# Altium footprint library PWR578A.PcbLib: 62 footprints (part 1 of 4)
Each footprint in its own frame and in the unit in brackets; x right, y up, seen from the top. Pads: shape width x height; smd on the part's side, far side on the other; paste and mask are expansions set on the pad; w line width, h text height; cw(c..) or ccw(c..) is an arc to the next point about the centre after c.
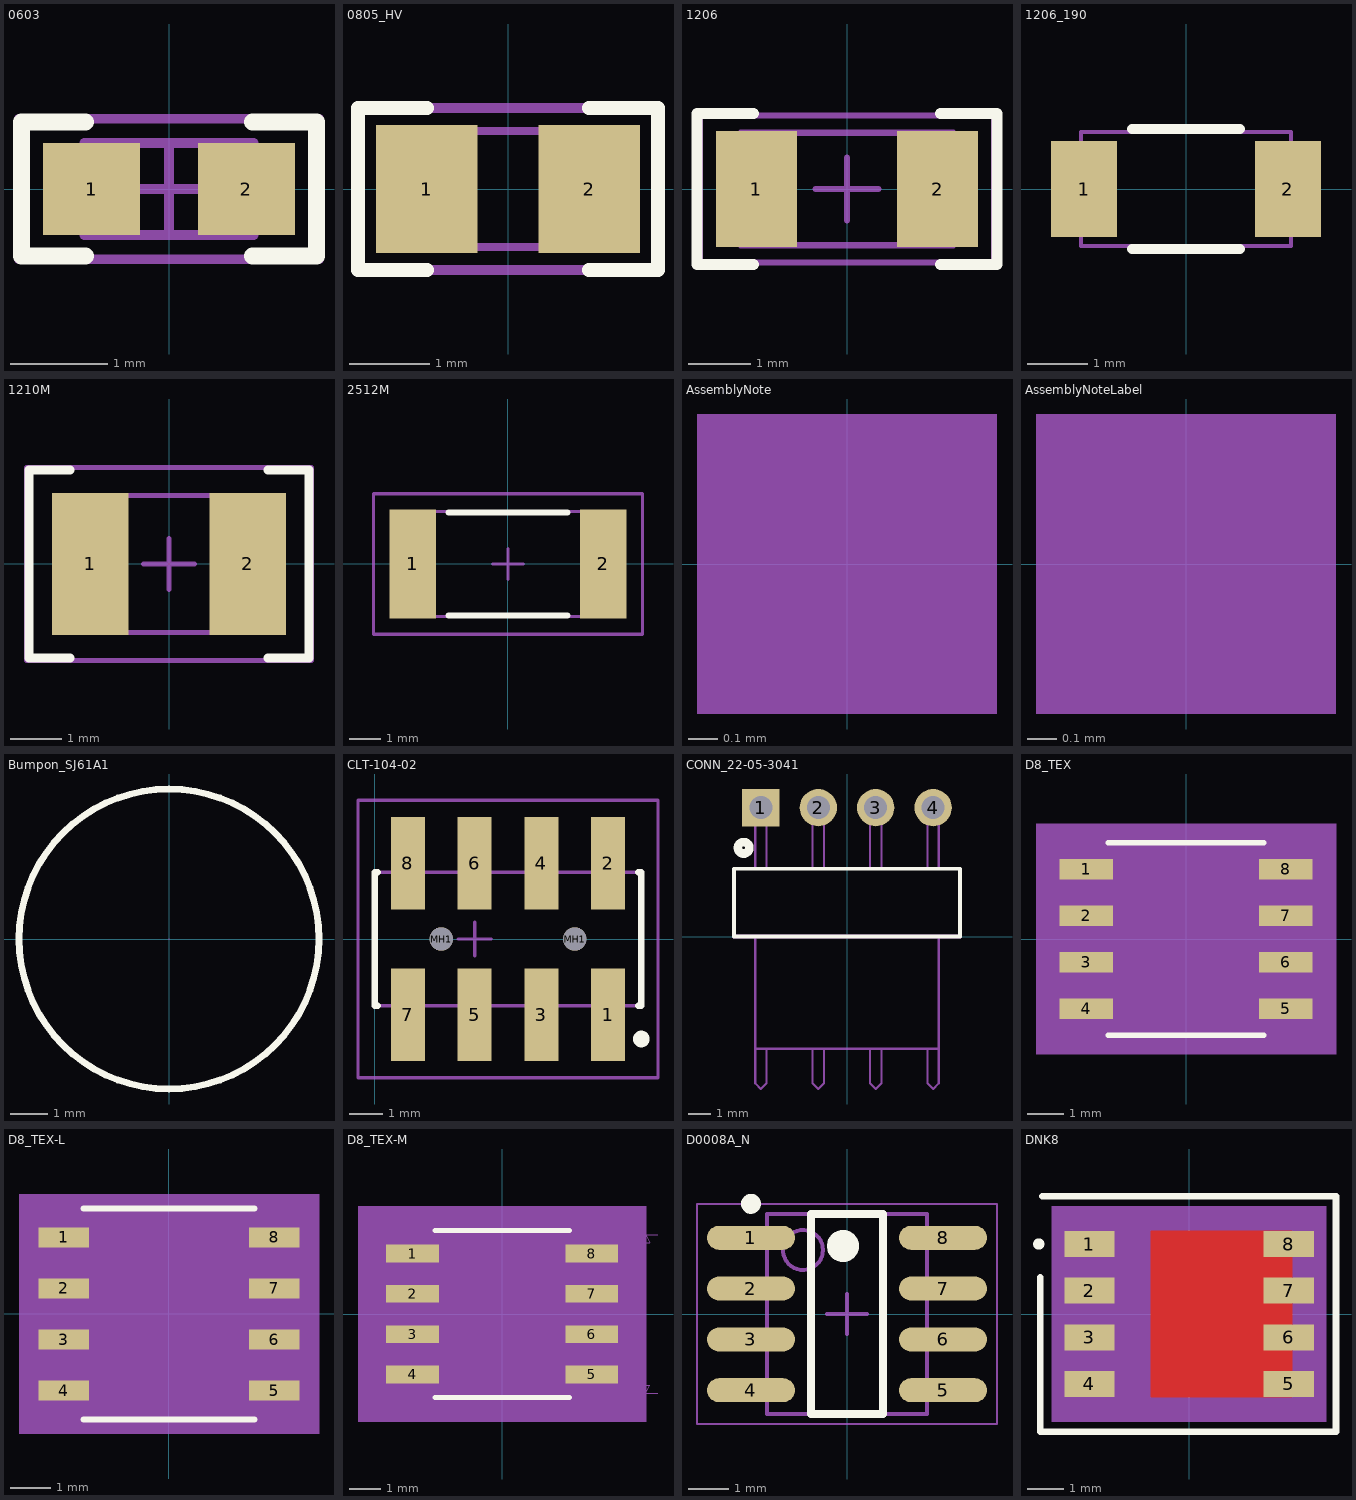
[diagram p0: the footprints below, top view; thin cyan lines are the x and y axes]

## 0603 [mm]
pads (2):
  rect 1x0.95 smd: 1(-0.8,0) 2(0.8,0)
Top Overlay:
  lines w0.178: -0.864,-0.691 -1.524,-0.691 -1.524,0.693 -0.864,0.693 ; 0.864,-0.691 1.524,-0.691 1.524,0.693 0.864,0.693
Mechanical 5:
  lines w0.1: -1.55,-0.725 -1.55,0.725 1.55,0.725 1.55,-0.725 -1.55,-0.725
  text ".Designator" at -1.397,-0.381 h0.76
Mechanical 13:
  lines w0.1: -0.55,-0.475 -0.55,0.475 ; 0.55,-0.475 0.55,0.475 ; -0.875,-0.475 -0.875,0.475 0.875,0.475 0.875,-0.475 -0.875,-0.475
Mechanical 15:
  lines w0.1: -0.475,0 0.475,0 ; 0,-0.475 0,0.475 ; -1.55,-0.725 -1.55,0.725 1.55,0.725 1.55,-0.725 -1.55,-0.725
3D body: height 0.85, standoff 0, extent -0.874,-0.474 -0.551,0.474
3D body: height 0.85, standoff 0, extent 0.551,-0.474 0.874,0.474
3D body: height 0.85, standoff 0, extent -0.549,-0.474 0.549,0.474

## 0805_HV [mil]
pads (2):
  rect 50x63 smd: 1(-40,0) 2(40,0)
Top Overlay:
  lines w7: -40,-40 -74,-40 -74,0 -74,40 -40,40 ; 40,-40 74,-40 74,0 74,40 40,40
Mechanical 5:
  lines w5: -74,-40 -74,40 74,40 74,-40 -74,-40
  text ".Designator" at -64,-17 h35
Mechanical 13:
  lines w3.94: -25.59,-28.54 -25.59,28.54 ; 25.59,-28.54 25.59,28.54 ; -43.31,-28.54 -43.31,28.54 43.31,28.54 43.31,-28.54 -43.31,-28.54
3D body: height 43.31, standoff 0, extent -43.29,-28.52 -25.61,28.52
3D body: height 43.31, standoff 0, extent -25.57,-28.52 25.57,28.52
3D body: height 43.31, standoff 0, extent 25.61,-28.52 43.29,28.52

## 1206 [mm]
pads (2):
  rect 1.3x1.85 smd: 1(-1.45,0) 2(1.45,0)
Top Overlay:
  lines w0.178: -1.5,-1.21 -2.4,-1.21 -2.4,1.21 -1.5,1.21 ; 1.5,-1.21 2.4,-1.21 2.4,1.21 1.5,1.21
Mechanical 5:
  lines w0.1: -1.7,-0.9 -1.7,0.9 1.7,0.9 1.7,-0.9 -1.7,-0.9
  text ".Designator" at -1.475,-0.4 h0.81
Mechanical 13:
  lines w0.1: -1.2,-0.9 -1.2,0.9 ; 1.2,-0.9 1.2,0.9 ; -1.7,-0.9 -1.7,0.9 1.7,0.9 1.7,-0.9 -1.7,-0.9
Mechanical 15:
  lines w0.1: -0.5,0 0.5,0 ; 0,-0.5 0,0.5 ; -2.35,-1.175 -2.35,1.175 2.35,1.175 2.35,-1.175 -2.35,-1.175
3D body: height 1.35, standoff 0, extent -1.699,-0.899 -1.201,0.899
3D body: height 1.35, standoff 0, extent -1.199,-0.899 1.199,0.899
3D body: height 1.35, standoff 0, extent 1.201,-0.899 1.699,0.899

## 1206_190 [mm]
pads (2):
  rect 1.1x1.6 smd: 1(-1.7,0) 2(1.7,0)
Top Overlay:
  lines w0.17: -0.9,-1 0.9,-1 ; -0.9,1 0.9,1
Mechanical 5:
  lines w0.07: -1.75,-0.95 -1.75,0.95 1.75,0.95 1.75,-0.95 -1.75,-0.95
  text ".Designator" at -1.5,-0.4 h0.81
3D body: height 1.9, standoff 0, extent -1.299,-0.949 1.299,0.949
3D body: height 1.9, standoff 0, extent -1.749,-0.949 -1.301,0.949
3D body: height 1.9, standoff 0, extent 1.301,-0.949 1.749,0.949

## 1210M [mm]
pads (2):
  rect 1.5x2.8 smd: 1(-1.55,0) 2(1.55,0)
Top Overlay:
  lines w0.178: -1.95,-1.85 -2.75,-1.85 -2.75,1.85 -1.95,1.85 ; 1.95,-1.85 2.75,-1.85 2.75,1.85 1.95,1.85
Mechanical 5:
  lines w0.1: -1.7,-1.35 1.7,-1.35 1.7,1.35 -1.7,1.35 -1.7,-1.35
  text ".Designator" at -1.4,-0.375 h0.76
Mechanical 13:
  lines w0.1: -1.2,-1.35 -1.2,1.35 ; 1.2,-1.35 1.2,1.35 ; -1.7,-1.35 -1.7,1.35 1.7,1.35 1.7,-1.35 -1.7,-1.35
Mechanical 15:
  lines w0.1: -0.5,0 0.5,0 ; 0,-0.5 0,0.5 ; -2.8,-1.9 2.8,-1.9 2.8,1.9 -2.8,1.9 -2.8,-1.9
3D body: height 1.35, standoff 0, extent 1.201,-1.349 1.699,1.349
3D body: height 1.35, standoff 0, extent -1.199,-1.349 1.199,1.349
3D body: height 1.35, standoff 0, extent -1.699,-1.349 -1.201,1.349

## 2512M [mm]
pads (2):
  rect 1.5x3.5 smd: 1(-3.05,0) 2(3.05,0)
Top Overlay:
  lines w0.2: -1.9,-1.65 1.9,-1.65 ; -1.9,1.65 1.9,1.65
Mechanical 5:
  lines w0.1: -3.225,-1.675 -3.225,1.675 3.225,1.675 3.225,-1.675 -3.225,-1.675
  text ".Designator" at -1.85,-0.5 h1.02
Mechanical 13:
  lines w0.1: -2.463,-1.675 -2.463,1.675 ; 2.463,-1.675 2.463,1.675 ; -3.225,-1.675 -3.225,1.675 3.225,1.675 3.225,-1.675 -3.225,-1.675
Mechanical 15:
  lines w0.1: -0.5,0 0.5,0 ; 0,-0.5 0,0.5 ; -4.3,-2.25 -4.3,2.25 4.3,2.25 4.3,-2.25 -4.3,-2.25
3D body: height 0.71, standoff 0, extent 2.464,-1.674 3.224,1.674
3D body: height 0.71, standoff 0, extent -2.462,-1.674 2.462,1.674
3D body: height 0.71, standoff 0, extent -3.224,-1.674 -2.464,1.674

## AssemblyNote [mm]
Mechanical 5:
  rectangle: -0.508,-0.508 0.508,0.508
  text ".Comment" at 1.143,-0.508 h1.02
  text ".Designator" at -12.7,-0.254 h1.02

## AssemblyNoteLabel [mm]
Mechanical 5:
  rectangle: -0.508,-0.508 0.508,0.508
  text ".Designator" at -12.7,-0.254 h1.02
  text "Install label in silkscreened box after final wash.  Text shall be 8 pt font.  Text shall be per the Label Table in the PDF schematic." at 1.143,-0.508 h1.02

## Bumpon_SJ61A1 [mil]
pads (1):
  round 1 on Mech3: 0(0,0)
Top Overlay:
  circle w7: c0,0 r156.21
Mechanical 5:
  circle w5: c0,0 r156.21
  text ".Designator" at -60,-20 h40
3D body "SJxxA1.stp": height 200.6, standoff 0.6, extent -155.95,-156 155.96,156

## CLT-104-02 [mm] "Connector, Socket Strip, Double Row, SMT, 8 Position, Vertical, Pitch 2mm, Body 20 x 4 mm (LxW)"
height 2.12
pads (10):
  rect 1.02x2.77 smd: 1(7,-2.275) 2(7,2.275) 3(5,-2.275) 4(5,2.275) 5(3,-2.275) 6(3,2.275) 7(1,-2.275) 8(1,2.275)
  round 0.7 hole 0.7 unplated: MH1(2,0) MH1(5.999,0)
Top Overlay:
  circle w0.25: c8,-3 r0.125
  lines w0.2: 0.09,-2 0,-2 0,2 0.09,2 ; 7.91,-2 8,-2 8,2 7.91,2
Mechanical 13:
  lines w0.1: 0,-2 8,-2 8,2 0,2 0,-2
Mechanical 15:
  lines w0.1: 2.5,0 3.5,0 ; 3,-0.5 3,0.5 ; -0.5,-4.16 8.5,-4.16 8.5,4.16 -0.5,4.16 -0.5,-4.16
3D body "CLT-104-02-F-D-A.stp": height 2.27, standoff -0.61, extent -0.002,-2.578 7.998,2.578

## CONN_22-05-3041 [mm]
pads (4):
  rect 1.65x1.65 hole 1.02: 1(-3.81,5.7)
  round 1.65 hole 1.02: 2(-1.27,5.7) 3(1.27,5.7) 4(3.81,5.7)
Top Overlay:
  circle w0.381: c-4.572,3.922 r0.254
  lines w0.17: -5,0 -5,3 5,3 5,0 -5,0
Mechanical 1:
  lines w0.17: -5,0 5,0
Mechanical 5:
  lines w0.1: -4.064,-4.968 -3.556,-4.968 ; -4.064,0 -4.064,-6.492 -3.81,-6.746 -3.556,-6.492 -3.556,-4.968 ; -4.064,3 -4.064,5.7 -4.064,5.954 -3.556,5.954 -3.556,5.7 -3.556,3 ; -1.524,3 -1.524,5.7 -1.524,5.954 -1.016,5.954 -1.016,5.7 -1.016,3 ; 1.016,3 1.016,5.7 1.016,5.954 1.524,5.954 1.524,5.7 1.524,3 ; 1.524,-4.968 1.524,-6.492 1.27,-6.746 1.016,-6.492 1.016,-4.968 ; 3.556,-4.968 3.556,-6.492 3.81,-6.746 4.064,-6.492 4.064,0 ; 3.556,3 3.556,5.7 3.556,5.954 4.064,5.954 4.064,5.6 4.064,3 ; 3.6,3 3.8,3 ; 4.064,-4.968 1.016,-4.968 ; -3.556,-4.968 -1.524,-4.968 ; -1.524,-4.968 -1.016,-4.968 ; -1.524,-4.968 -1.524,-6.492 -1.27,-6.746 -1.016,-6.492 -1.016,-4.968 ; -1.016,-4.968 1.016,-4.968 ; -5,0 -5,3 5,3 5,0 -5,0
  text ".Designator" at -2.032,1.128 h1.02
3D body "Molex_22-05-3041.stp": height 6.37, standoff -3.57, extent -5.004,-6.911 5.004,6.018

## D8_TEX [mil]
pads (8):
  rect 57.5x22 smd paste+0 mask+0: 1(-107.25,75) 2(-107.25,25) 3(-107.25,-25) 4(-107.25,-75) 5(107.25,-75) 6(107.25,-25) 7(107.25,25) 8(107.25,75)
Top Overlay:
  lines w6: -83.5,-103.5 83.5,-103.5 ; -83.5,103.5 83.5,103.5
  text "." at -173.23,70.87 h50
Mechanical 5:
  region: 161,-123.5 -161,-123.5 -161,123.5 161,123.5
Mechanical 13:
  lines w0: -12,98.5 ccw(c0,98.5) 12,98.5
  lines w1: -122,-85 -78.5,-85 -78.5,-65 -122,-65 -122,-85 ; -122,-35 -78.5,-35 -78.5,-15 -122,-15 -122,-35 ; -122,15 -78.5,15 -78.5,35 -122,35 -122,15 ; -122,65 -78.5,65 -78.5,85 -122,85 -122,65 ; -78.5,-98.5 -78.5,98.5 78.5,98.5 78.5,-98.5 -78.5,-98.5 ; 78.5,-85 122,-85 122,-65 78.5,-65 78.5,-85 ; 78.5,-35 122,-35 122,-15 78.5,-15 78.5,-35 ; 78.5,15 122,15 122,35 78.5,35 78.5,15 ; 78.5,65 122,65 122,85 78.5,85 78.5,65
  text "*" at -76,45.5 h50
Mechanical 15:
  region: -88.5,-96 -146,-96 -146,96 -88.5,96 -88.5,108.5 88.5,108.5 88.5,96 146,96 146,-96 88.5,-96 88.5,-108.5 -88.5,-108.5
  lines w6: -146,-96 -88.5,-96 -88.5,-108.5 88.5,-108.5 88.5,-96 146,-96 146,96 88.5,96 88.5,108.5 -88.5,108.5 -88.5,96 -146,96 -146,-96
3D body: height 10, standoff 0, extent 0,0 10,10
3D body "D0008A.stp": height 64, standoff 0, extent -118.55,-96.49 118.56,96.51

## D8_TEX-L [mil]
pads (8):
  rect 49.5x20 smd paste+0 mask+0: 1(-103.25,75) 2(-103.25,25) 3(-103.25,-25) 4(-103.25,-75) 5(103.25,-75) 6(103.25,-25) 7(103.25,25) 8(103.25,75)
Top Overlay:
  lines w6: -83.5,-103.5 83.5,-103.5 ; -83.5,103.5 83.5,103.5
  text "." at -173.23,70.87 h50
Mechanical 5:
  region: 147,-117.5 -147,-117.5 -147,117.5 147,117.5
Mechanical 13:
  lines w0: -12,98.5 ccw(c0,98.5) 12,98.5
  lines w1: -122,-85 -78.5,-85 -78.5,-65 -122,-65 -122,-85 ; -122,-35 -78.5,-35 -78.5,-15 -122,-15 -122,-35 ; -122,15 -78.5,15 -78.5,35 -122,35 -122,15 ; -122,65 -78.5,65 -78.5,85 -122,85 -122,65 ; -78.5,-98.5 -78.5,98.5 78.5,98.5 78.5,-98.5 -78.5,-98.5 ; 78.5,-85 122,-85 122,-65 78.5,-65 78.5,-85 ; 78.5,-35 122,-35 122,-15 78.5,-15 78.5,-35 ; 78.5,15 122,15 122,35 78.5,35 78.5,15 ; 78.5,65 122,65 122,85 78.5,85 78.5,65
  text "*" at -76,45.5 h50
Mechanical 15:
  region: -82.5,-89 -132,-89 -132,89 -82.5,89 -82.5,102.5 82.5,102.5 82.5,89 132,89 132,-89 82.5,-89 82.5,-102.5 -82.5,-102.5
  lines w6: -132,-89 -82.5,-89 -82.5,-102.5 82.5,-102.5 82.5,-89 132,-89 132,89 82.5,89 82.5,102.5 -82.5,102.5 -82.5,89 -132,89 -132,-89
3D body: height 10, standoff 0, extent 0,0 10,10
3D body "D0008A.stp": height 64, standoff 0, extent -118.55,-96.49 118.56,96.51

## D8_TEX-M [mil]
pads (8):
  rect 65.5x22 smd paste+0 mask+0: 1(-111.25,75) 2(-111.25,25) 3(-111.25,-25) 4(-111.25,-75) 5(111.25,-75) 6(111.25,-25) 7(111.25,25) 8(111.25,75)
Top Overlay:
  lines w6: -83.5,-103.5 83.5,-103.5 ; -83.5,103.5 83.5,103.5
  text "." at -173.23,70.87 h50
Mechanical 5:
  region: 179,-133.5 -179,-133.5 -179,133.5 179,133.5
Mechanical 7:
  lines w1: 0,-98.5 193.5,-98.5 ; 0,98.5 193.5,98.5 ; 178.5,-98.5 183.5,-88.5 173.5,-88.5 178.5,-98.5 ; 178.5,-98.5 178.5,98.5 ; 178.5,98.5 183.5,88.5 173.5,88.5 178.5,98.5
Mechanical 13:
  lines w0: -12,98.5 ccw(c0,98.5) 12,98.5
  lines w1: -122,-85 -78.5,-85 -78.5,-65 -122,-65 -122,-85 ; -122,-35 -78.5,-35 -78.5,-15 -122,-15 -122,-35 ; -122,15 -78.5,15 -78.5,35 -122,35 -122,15 ; -122,65 -78.5,65 -78.5,85 -122,85 -122,65 ; -78.5,-98.5 -78.5,98.5 78.5,98.5 78.5,-98.5 -78.5,-98.5 ; 78.5,-85 122,-85 122,-65 78.5,-65 78.5,-85 ; 78.5,-35 122,-35 122,-15 78.5,-15 78.5,-35 ; 78.5,15 122,15 122,35 78.5,35 78.5,15 ; 78.5,65 122,65 122,85 78.5,85 78.5,65
  text "*" at -76,45.5 h50
Mechanical 15:
  region: -98.5,-106 -164,-106 -164,106 -98.5,106 -98.5,118.5 98.5,118.5 98.5,106 164,106 164,-106 98.5,-106 98.5,-118.5 -98.5,-118.5
  lines w6: -164,-106 -98.5,-106 -98.5,-118.5 98.5,-118.5 98.5,-106 164,-106 164,106 98.5,106 98.5,118.5 -98.5,118.5 -98.5,106 -164,106 -164,-106
3D body: height 10, standoff 0, extent 0,0 10,10
3D body "D0008A.stp": height 64, standoff 0, extent -118.55,-96.49 118.56,96.51

## D0008A_N [mm]
pads (8):
  oval 2.2x0.6 smd: 1(-2.4,1.905) 2(-2.4,0.635) 3(-2.4,-0.635) 4(-2.4,-1.905) 5(2.4,-1.905) 6(2.4,-0.635) 7(2.4,0.635) 8(2.4,1.905)
Top Overlay:
  circle w0.25: c-2.4,2.755 r0.125
  circle w0.4: c-0.1,1.7 r0.2
  lines w0.2: -0.9,-2.5 0.9,-2.5 0.9,2.5 -0.9,2.5 -0.9,-2.5
Mechanical 5:
  circle w0.1: c-1.1,1.6 r0.5
  lines w0.1: -2,-2.5 2,-2.5 2,2.5 -2,2.5 -2,-2.5
  text ".Designator" at -1.854,-0.508 h1.02
Mechanical 15:
  lines w0.05: -3.75,-2.75 3.75,-2.75 3.75,2.75 -3.75,2.75 -3.75,-2.75
  lines w0.1: -0.5,0 0.5,0 ; 0,-0.5 0,0.5
3D body: height 1.75, standoff 0.1, extent -2,-2.5 2,2.5

## DNK8 [mm]
pads (8):
  rect 1.372x0.71 smd paste-0.673: 1(-2.712,1.905) 2(-2.712,0.635) 3(-2.712,-0.635) 4(-2.712,-1.905) 5(2.712,-1.905) 6(2.712,-0.635) 7(2.712,0.635) 8(2.712,1.905)
Top Layer:
  region: -1.042,-2.26 -1.042,2.26 2.808,2.26 2.808,-2.26
Top Overlay:
  circle w0.152: c-4.091,1.905 r0.076
  lines w0.178: -4.05,1 -4.05,0 -4.05,-3.2 4,-3.2 4,3.2 -4,3.2
Top Paste:
  region: 0.985,-0.853 -0.098,-0.853 -0.098,-2.16 0.985,-2.16
  region: 0.985,0.653 -0.098,0.653 -0.098,-0.653 0.985,-0.653
  region: 0.985,2.16 -0.098,2.16 -0.098,0.853 0.985,0.853
  region: -0.298,-0.853 -1.381,-0.853 -1.381,-2.16 -0.298,-2.16
  region: -0.298,0.653 -1.381,0.653 -1.381,-0.653 -0.298,-0.653
  region: -0.298,2.16 -1.381,2.16 -1.381,0.853 -0.298,0.853
  region: -1.581,-0.853 -2.665,-0.853 -2.665,-2.16 -1.581,-2.16
  region: -1.581,0.653 -2.665,0.653 -2.665,-0.653 -1.581,-0.653
  region: -1.581,2.16 -2.665,2.16 -2.665,0.853 -1.581,0.853
  region: 0.985,-0.853 -0.098,-0.853 -0.098,-2.16 0.985,-2.16
  region: 0.985,0.653 -0.098,0.653 -0.098,-0.653 0.985,-0.653
  region: 0.985,2.16 -0.098,2.16 -0.098,0.853 0.985,0.853
  region: -0.298,-0.853 -1.381,-0.853 -1.381,-2.16 -0.298,-2.16
  region: -0.298,0.653 -1.381,0.653 -1.381,-0.653 -0.298,-0.653
  region: -0.298,2.16 -1.381,2.16 -1.381,0.853 -0.298,0.853
  region: -1.581,-0.853 -2.665,-0.853 -2.665,-2.16 -1.581,-2.16
  region: -1.581,0.653 -2.665,0.653 -2.665,-0.653 -1.581,-0.653
  region: -1.581,2.16 -2.665,2.16 -2.665,0.853 -1.581,0.853
  region: 3.297,2.159 2.127,2.159 2.127,1.651 3.297,1.651
  region: 3.297,0.889 2.127,0.889 2.127,0.381 3.297,0.381
  region: 3.297,-0.381 2.127,-0.381 2.127,-0.889 3.297,-0.889
  region: 3.297,-1.651 2.127,-1.651 2.127,-2.159 3.297,-2.159
  region: -2.127,-1.651 -3.297,-1.651 -3.297,-2.159 -2.127,-2.159
  region: -2.127,-0.381 -3.297,-0.381 -3.297,-0.889 -2.127,-0.889
  region: -2.127,0.889 -3.297,0.889 -3.297,0.381 -2.127,0.381
  region: -2.127,2.159 -3.297,2.159 -3.297,1.651 -2.127,1.651
  region: 0.985,-0.853 -0.098,-0.853 -0.098,-2.16 0.985,-2.16
  region: 0.985,0.653 -0.098,0.653 -0.098,-0.653 0.985,-0.653
  region: 0.985,2.16 -0.098,2.16 -0.098,0.853 0.985,0.853
  region: -0.298,-0.853 -1.381,-0.853 -1.381,-2.16 -0.298,-2.16
  region: -0.298,0.653 -1.381,0.653 -1.381,-0.653 -0.298,-0.653
  region: -0.298,2.16 -1.381,2.16 -1.381,0.853 -0.298,0.853
  region: -1.581,-0.853 -2.665,-0.853 -2.665,-2.16 -1.581,-2.16
  region: -1.581,0.653 -2.665,0.653 -2.665,-0.653 -1.581,-0.653
  region: -1.581,2.16 -2.665,2.16 -2.665,0.853 -1.581,0.853
Top Solder:
  region: -2.765,-2.26 -2.765,2.26 1.085,2.26 1.085,-2.26
  region: 3.398,2.26 2.026,2.26 2.026,1.55 3.398,1.55
  region: 3.398,0.99 2.026,0.99 2.026,0.28 3.398,0.28
  region: 3.398,-0.28 2.026,-0.28 2.026,-0.99 3.398,-0.99
  region: 3.398,-1.55 2.026,-1.55 2.026,-2.26 3.398,-2.26
  region: -2.026,-1.55 -3.398,-1.55 -3.398,-2.26 -2.026,-2.26
  region: -2.026,-0.28 -3.398,-0.28 -3.398,-0.99 -2.026,-0.99
  region: -2.026,0.99 -3.398,0.99 -3.398,0.28 -2.026,0.28
  region: -2.026,2.26 -3.398,2.26 -3.398,1.55 -2.026,1.55
Mechanical 5:
  region: 3.736,-2.931 -3.736,-2.931 -3.736,2.931 3.736,2.931
Mechanical 13:
  circle w0: c-1.983,1.905 r0.076
  lines w0: -0.305,2.55 ccw(c0,2.55) 0.305,2.55
  lines w0.025: -3.05,-2.55 -3.05,2.55 3.05,2.55 3.05,-2.55 -3.05,-2.55
Mechanical 15:
  region: -3.304,-2.591 -3.609,-2.591 -3.609,2.591 -3.304,2.591 -3.304,2.804 3.304,2.804 3.304,2.591 3.609,2.591 3.609,-2.591 3.304,-2.591 3.304,-2.804 -3.304,-2.804
  lines w0.152: -3.609,-2.591 -3.304,-2.591 -3.304,-2.804 3.304,-2.804 3.304,-2.591 3.609,-2.591 3.609,2.591 3.304,2.591 3.304,2.804 -3.304,2.804 -3.304,2.591 -3.609,2.591 -3.609,-2.591
3D body: height 0.25, standoff 0, extent 0,0 0.254,0.254
3D body "DNK0008A.stp": height 1, standoff 0, extent -3,-2.5 3,2.5